# EAGLE library part 6861XX189122_686104189122 (library 68611414422)
WR-FPC 1.00 mm SMT ZIF Horizontal Back Locking Dual Contact KIND PROPERTIES Pitch 1 mm MATERIAL PROPERTIES Insulator Material LCP Contact Material Phosphor Bronze Contact Plating 80 (µ") Tin over 50 (µ") Nickel Contact Type Stamped Solder Tabs Brass <https://www.we-online.com/catalog/media/o680359v209%20family-wr-fpc-68xx189122.jpg> Details see: https://www.we-online.com/catalog/en/WR_FPC_1_00_MM_ZIF_BACK_LOCKING_DUAL_CONTACT Created by Ella Wu 2022-03-31 2022(C) Wurth Elektronik
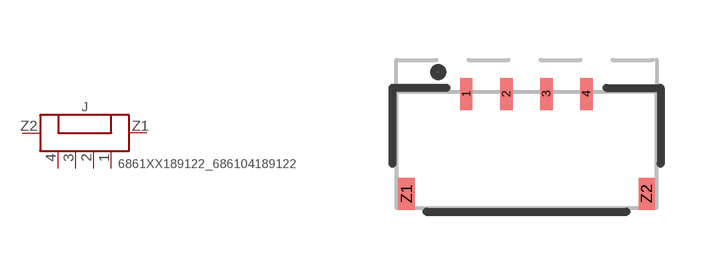
[diagram p219: symbol with the pads of 686104189122; footprint 686104189122]

Designator prefix J

## 6861XX189122_686104189122 (CONTACT-RESISTANCE: 30mOhm; DATASHEET-URL: https://www.we-online.com/catalog/datasheet/686104189122.pdf; IR: 0.5A; L: 6.5mm; PACKAGING: Tape and Reel; PART-NUMBER: 686104189122; PINS: 4; PITCH: 1mm; TYPE: Horizontal; VALUE: 686104189122; WORKING-VOLTAGE: 50V(AC))  [686104189122]
1  1  pas
2  2  pas
3  3  pas
4  4  pas
Z1  Z1  pas
Z2  Z2  pas

## Footprint 686104189122 (pad centres in mm)
WR-FPC 1.00 mm SMT ZIF Horizontal Back Locking Dual Contact 4pins
smd 0.3 x 0.8: 1 -1.5,1.25; 2 -0.5,1.25; 3 0.5,1.25; 4 1.5,1.25
smd 0.4 x 0.8: Z1 -3,-1.25; Z2 3,-1.25